# Altium schematic symbol library STEF01FTR.SchLib: 1 symbol
Pins are listed as number, name and electrical type; pins without a type are passive.

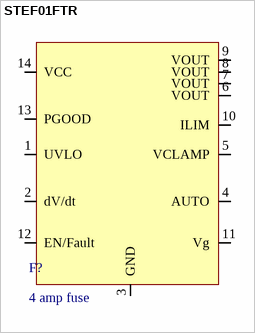
[diagram p0: symbol STEF01FTR]

## STEF01FTR
designator F?, comment 4 amp fuse
footprint STEF01FTR
pins: 1 UVLO (in), 2 dV/dt (in), 3 GND (power), 4 AUTO (in), 5 VCLAMP (in), 6 VOUT (power), 7 VOUT (power), 8 VOUT (power), 9 VOUT (power), 10 ILIM (in), 11 Vg (out), 12 EN/Fault (io), 13 PGOOD (out), 14 VCC (in)